# Altium schematic symbol library BB-HEADER-P06-P10.SchLib: 1 symbol
Pins are listed as number, name and electrical type; pins without a type are passive.

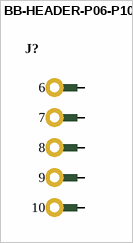
[diagram p0: symbol BB-HEADER-P06-P10]

## BB-HEADER-P06-P10
designator J?  (value not drawn)
BB Header, Vertical, Male, 0.1", 2.54mm, P06-P10
pins: 6, 7, 8, 9, 10